# EAGLE library part LT1793 (library linear-tech)
LT1793 op amp, 8PDIP to surface mount package
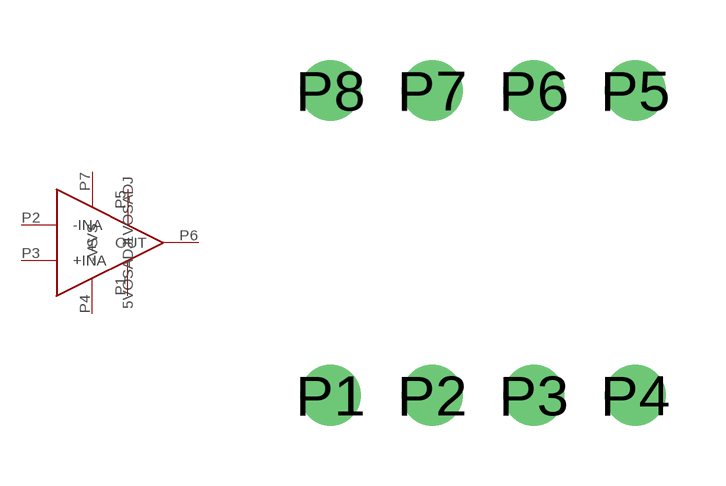
[diagram p1: symbol with the pads of 8PIN_SURF; footprint 8PIN_SURF]

Designator prefix -

## LT1793SURF-8PDIP  [8PIN_SURF]
P1  1VOSADJ
P2  -INA
P3  +INA
P4  -VS
P5  5VOSADJ
P6  OUT
P7  +VS

## Footprint 8PIN_SURF (pad centres in mm)
component package link: http://www.digikey.com/product-detail/en/214-99-308-01-670800/ED2128-ND/58679 Top view: http://media.digikey.com/pdf/Catalog%20Drawings/ Connectors/SERIES%20214%20PINOUT.jpg Side view: http://media.digikey.com/pdf/Catalog%20Drawings/Connectors/SERIES%20214%20DIM-v1.jpg
drill 0.025 pad 1.524: P1 -3.81,-3.81; P2 -1.27,-3.81; P3 1.27,-3.81; P4 3.81,-3.81; P5 3.81,3.81; P6 1.27,3.81; P7 -1.27,3.81; P8 -3.81,3.81